# Altium footprint library MiscPower.PcbLib: 174 footprints (part 7 of 12)
Each footprint in its own frame and in the unit in brackets; x right, y up, seen from the top. Pads: shape width x height; smd on the part's side, far side on the other; paste and mask are expansions set on the pad; w line width, h text height; cw(c..) or ccw(c..) is an arc to the next point about the centre after c.
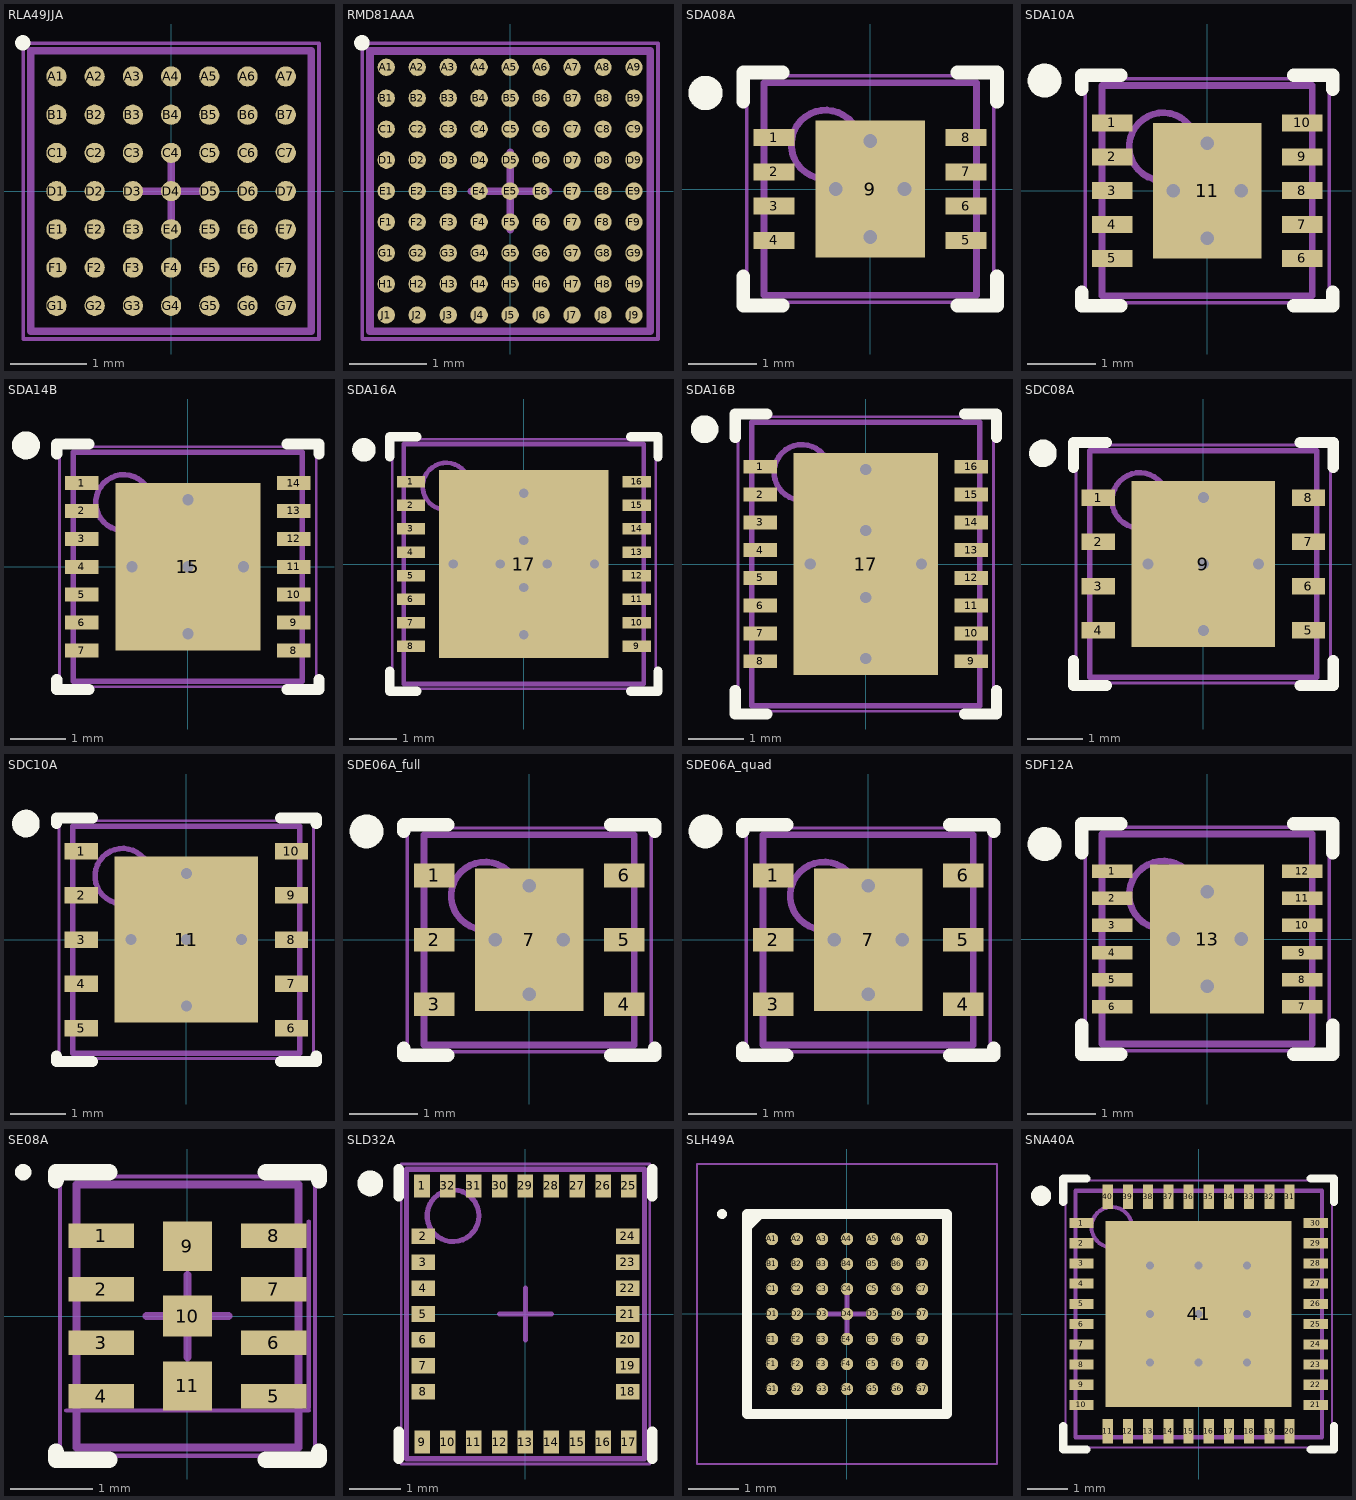
[diagram p6: the footprints below, top view; thin cyan lines are the x and y axes]

## RLA49JJA [mm] "Micro SMD, 49-Leads, Body 3.67x3.67mm, Pitch 0.5mm, NSC Recommended"
height 0.73
pads (49):
  round 0.265 smd paste-0.132 mask+0.05: A1(-1.5,1.5) A2(-1,1.5) A3(-0.5,1.5) A4(0,1.5) A5(0.5,1.5) A6(1,1.5) A7(1.5,1.5) B1(-1.5,1) B2(-1,1) B3(-0.5,1) B4(0,1) B5(0.5,1) B6(1,1) B7(1.5,1) C1(-1.5,0.5) C2(-1,0.5) C3(-0.5,0.5) C4(0,0.5) C5(0.5,0.5) C6(1,0.5) C7(1.5,0.5) D1(-1.5,0) D2(-1,0) D3(-0.5,0) D4(0,0) D5(0.5,0) D6(1,0) D7(1.5,0) E1(-1.5,-0.5) E2(-1,-0.5) E3(-0.5,-0.5) E4(0,-0.5) E5(0.5,-0.5) E6(1,-0.5) E7(1.5,-0.5) F1(-1.5,-1) F2(-1,-1) F3(-0.5,-1) F4(0,-1) F5(0.5,-1) F6(1,-1) F7(1.5,-1) G1(-1.5,-1.5) G2(-1,-1.5) G3(-0.5,-1.5) G4(0,-1.5) G5(0.5,-1.5) G6(1,-1.5) G7(1.5,-1.5)
Top Overlay:
  circle w0.1: c-1.94,1.94 r0.05
Top Paste:
  drawing of 441 lines, arcs and shapes, not listed
Mechanical 13:
  lines w0.1: -1.835,-1.835 -1.835,1.835 1.835,1.835 1.835,-1.835 -1.835,-1.835
Mechanical 15:
  lines w0.05: -1.935,-1.935 -1.935,1.935 1.935,1.935 1.935,-1.935 -1.935,-1.935
  lines w0.1: -0.5,0 0.5,0 ; 0,-0.5 0,0.5
3D body: height 0.73, standoff 0, extent -1.835,-1.835 1.835,1.835

## RMD81AAA [mm] "Micro SMD, 81-Leads, Body 3.62x3.62mm, Pitch 0.4mm, NSC Recommended"
height 0.73
pads (81):
  round 0.225 smd paste-0.112 mask+0.05: A1(-1.6,1.6) A2(-1.2,1.6) A3(-0.8,1.6) A4(-0.4,1.6) A5(0,1.6) A6(0.4,1.6) A7(0.8,1.6) A8(1.2,1.6) A9(1.6,1.6) B1(-1.6,1.2) B2(-1.2,1.2) B3(-0.8,1.2) B4(-0.4,1.2) B5(0,1.2) B6(0.4,1.2) B7(0.8,1.2) B8(1.2,1.2) B9(1.6,1.2) C1(-1.6,0.8) C2(-1.2,0.8) C3(-0.8,0.8) C4(-0.4,0.8) C5(0,0.8) C6(0.4,0.8) C7(0.8,0.8) C8(1.2,0.8) C9(1.6,0.8) D1(-1.6,0.4) D2(-1.2,0.4) D3(-0.8,0.4) D4(-0.4,0.4) D5(0,0.4) D6(0.4,0.4) D7(0.8,0.4) D8(1.2,0.4) D9(1.6,0.4) E1(-1.6,0) E2(-1.2,0) E3(-0.8,0) E4(-0.4,0) E5(0,0) E6(0.4,0) E7(0.8,0) E8(1.2,0) E9(1.6,0) F1(-1.6,-0.4) F2(-1.2,-0.4) F3(-0.8,-0.4) F4(-0.4,-0.4) F5(0,-0.4) F6(0.4,-0.4) F7(0.8,-0.4) F8(1.2,-0.4) F9(1.6,-0.4) G1(-1.6,-0.8) G2(-1.2,-0.8) G3(-0.8,-0.8) G4(-0.4,-0.8) G5(0,-0.8) G6(0.4,-0.8) G7(0.8,-0.8) G8(1.2,-0.8) G9(1.6,-0.8) H1(-1.6,-1.2) H2(-1.2,-1.2) H3(-0.8,-1.2) H4(-0.4,-1.2) H5(0,-1.2) H6(0.4,-1.2) H7(0.8,-1.2) H8(1.2,-1.2) H9(1.6,-1.2) J1(-1.6,-1.6) J2(-1.2,-1.6) J3(-0.8,-1.6) J4(-0.4,-1.6) J5(0,-1.6) J6(0.4,-1.6) J7(0.8,-1.6) J8(1.2,-1.6) J9(1.6,-1.6)
Top Overlay:
  circle w0.1: c-1.915,1.915 r0.05
Top Paste:
  drawing of 729 lines, arcs and shapes, not listed
Mechanical 13:
  lines w0.1: -1.81,-1.81 -1.81,1.81 1.81,1.81 1.81,-1.81 -1.81,-1.81
Mechanical 15:
  lines w0.05: -1.91,-1.91 -1.91,1.91 1.91,1.91 1.91,-1.91 -1.91,-1.91
  lines w0.1: -0.5,0 0.5,0 ; 0,-0.5 0,0.5
3D body: height 0.73, standoff 0, extent -1.81,-1.81 1.81,1.81

## SDA08A [mm] "SON, 8-Leads, Body 3x3mm, Pitch 0.5mm, NSC Recommended"
height 0.8
pads (9):
  rect 0.6x0.25 smd paste-0.125 mask+0.051: 1(-1.4,0.75) 2(-1.4,0.25) 3(-1.4,-0.25) 4(-1.4,-0.75) 5(1.4,-0.75) 6(1.4,-0.25) 7(1.4,0.25) 8(1.4,0.75)
  rect 1.6x2 smd paste-0.05 mask+0.051: 9(0,0)
via -0.5,0 diameter 0.5 hole 0.2
via 0.5,0 diameter 0.5 hole 0.2
via 0,0.7 diameter 0.5 hole 0.2
via 0,-0.7 diameter 0.5 hole 0.2
Top Overlay:
  circle w0.25: c-2.4,1.4 r0.125
  lines w0.2: -1.85,-1.275 -1.85,-1.7 -1.275,-1.7 ; -1.85,1.275 -1.85,1.7 -1.275,1.7 ; 1.275,-1.7 1.85,-1.7 1.85,-1.275 ; 1.275,1.7 1.85,1.7 1.85,1.275
Top Paste:
  region: 1.2,0.875 1.2,0.625 1.9,0.625 1.9,0.875
  region: 1.2,0.375 1.2,0.125 1.9,0.125 1.9,0.375
  region: 1.2,-0.125 1.2,-0.375 1.9,-0.375 1.9,-0.125
  region: 1.2,-0.625 1.2,-0.875 1.9,-0.875 1.9,-0.625
  region: -1.9,-0.625 -1.9,-0.875 -1.2,-0.875 -1.2,-0.625
  region: -1.9,-0.125 -1.9,-0.375 -1.2,-0.375 -1.2,-0.125
  region: -1.9,0.375 -1.9,0.125 -1.2,0.125 -1.2,0.375
  region: -1.9,0.875 -1.9,0.625 -1.2,0.625 -1.2,0.875
Mechanical 13:
  circle w0.1: c-0.65,0.65 r0.5
  lines w0.1: -1.55,-1.55 1.55,-1.55 1.55,1.55 -1.55,1.55 -1.55,-1.55
Mechanical 15:
  lines w0.05: -1.8,-1.65 1.8,-1.65 1.8,1.65 -1.8,1.65 -1.8,-1.65
  lines w0.1: -0.5,0 0.5,0 ; 0,-0.5 0,0.5
3D body: height 0.8, standoff 0, extent -1.55,-1.55 1.55,1.55

## SDA10A [mm] "SON, 10-Leads, Body 3x3 mm, Pitch 0.5mm, NSC Recommended"
height 0.8
pads (11):
  rect 0.6x0.25 smd paste-0.125 mask+0.051: 1(-1.4,1) 2(-1.4,0.5) 3(-1.4,0) 4(-1.4,-0.5) 5(-1.4,-1) 6(1.4,-1) 7(1.4,-0.5) 8(1.4,0) 9(1.4,0.5) 10(1.4,1)
  rect 1.6x2 smd paste-0.05 mask+0.051: 11(0,0)
via -0.5,0 diameter 0.5 hole 0.2
via 0.5,0 diameter 0.5 hole 0.2
via 0,0.7 diameter 0.5 hole 0.2
via 0,-0.7 diameter 0.5 hole 0.2
Top Overlay:
  circle w0.25: c-2.4,1.625 r0.125
  lines w0.2: -1.85,-1.5 -1.85,-1.7 -1.275,-1.7 ; -1.85,1.5 -1.85,1.7 -1.275,1.7 ; 1.275,-1.7 1.85,-1.7 1.85,-1.5 ; 1.275,1.7 1.85,1.7 1.85,1.5
Top Paste:
  rectangle: -1.9,0.875 -1.2,1.125
  rectangle: -1.9,0.375 -1.2,0.625
  rectangle: -1.9,-0.125 -1.2,0.125
  rectangle: -1.9,-0.625 -1.2,-0.375
  rectangle: -1.9,-1.125 -1.2,-0.875
  region: 1.9,1.125 1.2,1.125 1.2,0.875 1.9,0.875
  region: 1.9,0.625 1.2,0.625 1.2,0.375 1.9,0.375
  region: 1.9,0.125 1.2,0.125 1.2,-0.125 1.9,-0.125
  region: 1.9,-0.375 1.2,-0.375 1.2,-0.625 1.9,-0.625
  region: 1.9,-0.875 1.2,-0.875 1.2,-1.125 1.9,-1.125
Mechanical 13:
  circle w0.1: c-0.65,0.65 r0.5
  lines w0.1: -1.55,-1.55 -1.55,1.55 1.55,1.55 1.55,-1.55 -1.55,-1.55
Mechanical 15:
  lines w0.05: -1.8,-1.65 -1.8,1.65 1.8,1.65 1.8,-1.65 -1.8,-1.65
  lines w0.1: -0.5,0 0.5,0 ; 0,-0.5 0,0.5
3D body: height 0.8, standoff 0, extent -1.55,-1.55 1.55,1.55

## SDA14B [mm] "SON, 14-Leads, Body 4x4mm, Pitch 0.5mm, NSC Recommended"
height 0.8
pads (15):
  rect 0.6x0.25 smd paste-0.125 mask+0.051: 1(-1.9,1.5) 2(-1.9,1) 3(-1.9,0.5) 4(-1.9,0) 5(-1.9,-0.5) 6(-1.9,-1) 7(-1.9,-1.5) 8(1.9,-1.5) 9(1.9,-1) 10(1.9,-0.5) 11(1.9,0) 12(1.9,0.5) 13(1.9,1) 14(1.9,1.5)
  rect 2.6x3 smd paste-1.3 mask+0.051: 15(0,0)
via 0,0 diameter 0.5 hole 0.2
via 1,0 diameter 0.5 hole 0.2
via -1,0 diameter 0.5 hole 0.2
via 0,-1.2 diameter 0.5 hole 0.2
via 0,1.2 diameter 0.5 hole 0.2
Top Overlay:
  circle w0.25: c-2.9,2.175 r0.125
  lines w0.2: -2.35,-2.025 -2.35,-2.2 -1.775,-2.2 ; -2.35,2.025 -2.35,2.2 -1.775,2.2 ; 1.775,-2.2 2.35,-2.2 2.35,-2.025 ; 1.775,2.2 2.35,2.2 2.35,2.025
Top Paste:
  region: 1.2,1.4 0.1,1.4 0.1,0.1 1.2,0.1
  region: 1.2,-0.1 0.1,-0.1 0.1,-1.4 1.2,-1.4
  rectangle: -1.2,-1.4 -0.1,-0.1
  rectangle: -1.2,0.1 -0.1,1.4
  region: -2.4,-1.375 -2.4,-1.625 -1.7,-1.625 -1.7,-1.375
  region: -2.4,-0.875 -2.4,-1.125 -1.7,-1.125 -1.7,-0.875
  region: -2.4,-0.375 -2.4,-0.625 -1.7,-0.625 -1.7,-0.375
  region: -2.4,0.125 -2.4,-0.125 -1.7,-0.125 -1.7,0.125
  region: -2.4,1.125 -2.4,0.875 -1.7,0.875 -1.7,1.125
  region: -2.4,1.625 -2.4,1.375 -1.7,1.375 -1.7,1.625
  region: 1.7,1.625 1.7,1.375 2.4,1.375 2.4,1.625
  region: 1.7,1.125 1.7,0.875 2.4,0.875 2.4,1.125
  region: 1.7,0.625 1.7,0.375 2.4,0.375 2.4,0.625
  region: 1.7,0.125 1.7,-0.125 2.4,-0.125 2.4,0.125
  region: 1.7,-0.375 1.7,-0.625 2.4,-0.625 2.4,-0.375
  region: 1.7,-0.875 1.7,-1.125 2.4,-1.125 2.4,-0.875
  region: 1.7,-1.375 1.7,-1.625 2.4,-1.625 2.4,-1.375
  region: -2.4,0.625 -2.4,0.375 -1.7,0.375 -1.7,0.625
Mechanical 13:
  circle w0.1: c-1.15,1.15 r0.5
  lines w0.1: -2.05,-2.05 -2.05,2.05 2.05,2.05 2.05,-2.05 -2.05,-2.05
Mechanical 15:
  lines w0.05: -2.3,-2.15 -2.3,2.15 2.3,2.15 2.3,-2.15 -2.3,-2.15
  lines w0.1: -0.5,0 0.5,0 ; 0,-0.5 0,0.5
3D body: height 0.8, standoff 0, extent -2.049,-2.049 2.049,2.049

## SDA16A [mm] "SON, 16-Leads, Body 5x5mm, Pitch 0.5mm, NSC Recommended"
height 0.8
pads (17):
  rect 0.6x0.25 smd paste-0.125 mask+0.051: 1(-2.4,1.75) 2(-2.4,1.25) 3(-2.4,0.75) 4(-2.4,0.25) 5(-2.4,-0.25) 6(-2.4,-0.75) 7(-2.4,-1.25) 8(-2.4,-1.75) 9(2.4,-1.75) 10(2.4,-1.25) 11(2.4,-0.75) 12(2.4,-0.25) 13(2.4,0.25) 14(2.4,0.75) 15(2.4,1.25) 16(2.4,1.75)
  rect 3.6x4 smd paste-1.8 mask+0.051: 17(0,0)
via -1.5,0 diameter 0.5 hole 0.2
via 0,-1.5 diameter 0.5 hole 0.2
via 0,1.5 diameter 0.5 hole 0.2
via 1.5,0 diameter 0.5 hole 0.2
via -0.5,0 diameter 0.5 hole 0.2
via 0.5,0 diameter 0.5 hole 0.2
via 0,-0.5 diameter 0.5 hole 0.2
via 0,0.5 diameter 0.5 hole 0.2
Top Overlay:
  circle w0.25: c-3.4,2.425 r0.125
  lines w0.2: -2.85,-2.275 -2.85,-2.7 -2.275,-2.7 ; -2.85,2.275 -2.85,2.7 -2.275,2.7 ; 2.275,-2.7 2.85,-2.7 2.85,-2.275 ; 2.275,2.7 2.85,2.7 2.85,2.275
Top Paste:
  region: -1.7,-0.1 -1.7,-1.9 -0.1,-1.9 -0.1,-0.1
  region: -0.1,0.1 -0.1,1.9 -1.7,1.9 -1.7,0.1
  region: 1.7,0.1 1.7,1.9 0.1,1.9 0.1,0.1
  region: 2.2,1.875 2.2,1.625 2.9,1.625 2.9,1.875
  region: 2.2,1.375 2.2,1.125 2.9,1.125 2.9,1.375
  region: 2.2,0.875 2.2,0.625 2.9,0.625 2.9,0.875
  region: 2.2,0.375 2.2,0.125 2.9,0.125 2.9,0.375
  region: 2.2,-0.125 2.2,-0.375 2.9,-0.375 2.9,-0.125
  region: 2.2,-0.625 2.2,-0.875 2.9,-0.875 2.9,-0.625
  region: 2.2,-1.125 2.2,-1.375 2.9,-1.375 2.9,-1.125
  region: 2.2,-1.625 2.2,-1.875 2.9,-1.875 2.9,-1.625
  region: -2.9,-1.625 -2.9,-1.875 -2.2,-1.875 -2.2,-1.625
  region: -2.9,-1.125 -2.9,-1.375 -2.2,-1.375 -2.2,-1.125
  region: -2.9,-0.625 -2.9,-0.875 -2.2,-0.875 -2.2,-0.625
  region: -2.9,-0.125 -2.9,-0.375 -2.2,-0.375 -2.2,-0.125
  region: -2.9,0.375 -2.9,0.125 -2.2,0.125 -2.2,0.375
  region: -2.9,0.875 -2.9,0.625 -2.2,0.625 -2.2,0.875
  region: -2.9,1.375 -2.9,1.125 -2.2,1.125 -2.2,1.375
  region: -2.9,1.875 -2.9,1.625 -2.2,1.625 -2.2,1.875
  region: 0.1,-0.1 0.1,-1.9 1.7,-1.9 1.7,-0.1
Mechanical 13:
  circle w0.1: c-1.65,1.65 r0.5
  lines w0.1: -2.55,-2.55 -2.55,2.55 2.55,2.55 2.55,-2.55 -2.55,-2.55
Mechanical 15:
  lines w0.05: -2.8,-2.65 -2.8,2.65 2.8,2.65 2.8,-2.65 -2.8,-2.65
  lines w0.1: -0.5,0 0.5,0 ; 0,-0.5 0,0.5
3D body: height 0.8, standoff 0, extent -2.55,-2.55 2.55,2.55

## SDA16B [mm] "SON, 16-Leads, Body 5x4mm, Pitch 0.5mm, NSC Recommended"
height 0.8
pads (17):
  rect 0.6x0.25 smd paste-0.125 mask+0.051: 1(-1.9,1.75) 2(-1.9,1.25) 3(-1.9,0.75) 4(-1.9,0.25) 5(-1.9,-0.25) 6(-1.9,-0.75) 7(-1.9,-1.25) 8(-1.9,-1.75) 9(1.9,-1.75) 10(1.9,-1.25) 11(1.9,-0.75) 12(1.9,-0.25) 13(1.9,0.25) 14(1.9,0.75) 15(1.9,1.25) 16(1.9,1.75)
  rect 2.6x4 smd paste-1.3 mask+0.051: 17(0,0)
via 0,0.6 diameter 0.5 hole 0.2
via 0,-0.6 diameter 0.5 hole 0.2
via 1,0 diameter 0.5 hole 0.2
via -1,0 diameter 0.5 hole 0.2
via 0,1.7 diameter 0.5 hole 0.2
via 0,-1.7 diameter 0.5 hole 0.2
Top Overlay:
  circle w0.25: c-2.9,2.425 r0.125
  lines w0.2: -2.35,-2.275 -2.35,-2.7 -1.775,-2.7 ; -2.35,2.275 -2.35,2.7 -1.775,2.7 ; 1.775,-2.7 2.35,-2.7 2.35,-2.275 ; 1.775,2.7 2.35,2.7 2.35,2.275
Top Paste:
  rectangle: 0.1,-1.9 1.2,-0.1
  region: -0.1,-0.1 -1.2,-0.1 -1.2,-1.9 -0.1,-1.9
  region: -0.1,1.9 -1.2,1.9 -1.2,0.1 -0.1,0.1
  rectangle: 0.1,0.1 1.2,1.9
  region: 1.7,-1.625 1.7,-1.875 2.4,-1.875 2.4,-1.625
  region: 1.7,-1.125 1.7,-1.375 2.4,-1.375 2.4,-1.125
  region: 1.7,-0.625 1.7,-0.875 2.4,-0.875 2.4,-0.625
  region: 1.7,-0.125 1.7,-0.375 2.4,-0.375 2.4,-0.125
  region: 1.7,0.375 1.7,0.125 2.4,0.125 2.4,0.375
  region: 1.7,0.875 1.7,0.625 2.4,0.625 2.4,0.875
  region: 1.7,1.375 1.7,1.125 2.4,1.125 2.4,1.375
  region: 1.7,1.875 1.7,1.625 2.4,1.625 2.4,1.875
  region: -2.4,1.875 -2.4,1.625 -1.7,1.625 -1.7,1.875
  region: -2.4,1.375 -2.4,1.125 -1.7,1.125 -1.7,1.375
  region: -2.4,0.875 -2.4,0.625 -1.7,0.625 -1.7,0.875
  region: -2.4,0.375 -2.4,0.125 -1.7,0.125 -1.7,0.375
  region: -2.4,-0.125 -2.4,-0.375 -1.7,-0.375 -1.7,-0.125
  region: -2.4,-0.625 -2.4,-0.875 -1.7,-0.875 -1.7,-0.625
  region: -2.4,-1.125 -2.4,-1.375 -1.7,-1.375 -1.7,-1.125
  region: -2.4,-1.625 -2.4,-1.875 -1.7,-1.875 -1.7,-1.625
Mechanical 13:
  circle w0.1: c-1.15,1.65 r0.5
  lines w0.1: -2.05,-2.55 -2.05,2.55 2.05,2.55 2.05,-2.55 -2.05,-2.55
Mechanical 15:
  lines w0.05: -2.3,-2.65 -2.3,2.65 2.3,2.65 2.3,-2.65 -2.3,-2.65
  lines w0.1: -0.5,0 0.5,0 ; 0,-0.5 0,0.5
3D body: height 0.8, standoff 0, extent -2.049,-2.549 2.049,2.549

## SDC08A [mm] "SON, 8-Leads, Body 4x4mm, Pitch 0.8mm, NSC Recommended"
height 0.8
pads (9):
  rect 0.6x0.3 smd paste-0.15 mask+0.051: 1(-1.9,1.2) 2(-1.9,0.4) 3(-1.9,-0.4) 4(-1.9,-1.2) 5(1.9,-1.2) 6(1.9,-0.4) 7(1.9,0.4) 8(1.9,1.2)
  rect 2.6x3 smd paste-1.5 mask+0.051: 9(0,0)
via -1,0 diameter 0.5 hole 0.2
via 0,0 diameter 0.5 hole 0.2
via 1,0 diameter 0.5 hole 0.2
via 0,1.2 diameter 0.5 hole 0.2
via 0,-1.2 diameter 0.5 hole 0.2
Top Overlay:
  circle w0.25: c-2.9,2 r0.125
  lines w0.2: -2.35,-1.75 -2.35,-2.2 -1.75,-2.2 ; -2.35,1.75 -2.35,2.2 -1.75,2.2 ; 1.75,-2.2 2.35,-2.2 2.35,-1.75 ; 1.75,2.2 2.35,2.2 2.35,1.75
Top Paste:
  rectangle: -1.2,-1.4 -0.1,-0.1
  region: 1.2,-0.1 0.1,-0.1 0.1,-1.4 1.2,-1.4
  region: 1.2,1.4 0.1,1.4 0.1,0.1 1.2,0.1
  rectangle: -1.2,0.1 -0.1,1.4
  rectangle: 1.7,1.05 2.4,1.35
  rectangle: 1.7,0.25 2.4,0.55
  rectangle: 1.7,-0.55 2.4,-0.25
  rectangle: 1.7,-1.35 2.4,-1.05
  region: -1.7,-1.05 -2.4,-1.05 -2.4,-1.35 -1.7,-1.35
  region: -1.7,-0.25 -2.4,-0.25 -2.4,-0.55 -1.7,-0.55
  region: -1.7,0.55 -2.4,0.55 -2.4,0.25 -1.7,0.25
  region: -1.7,1.35 -2.4,1.35 -2.4,1.05 -1.7,1.05
Mechanical 13:
  circle w0.1: c-1.15,1.15 r0.5
  lines w0.1: -2.05,-2.05 2.05,-2.05 2.05,2.05 -2.05,2.05 -2.05,-2.05
Mechanical 15:
  lines w0.05: -2.3,-2.15 2.3,-2.15 2.3,2.15 -2.3,2.15 -2.3,-2.15
  lines w0.1: -0.5,0 0.5,0 ; 0,-0.5 0,0.5
3D body: height 0.8, standoff 0, extent -2.05,-2.05 2.05,2.05

## SDC10A [mm] "SON, 10-Leads, Body 4x4 mm, Pitch 0.8mm, NSC Recommended"
height 0.8
pads (11):
  rect 0.6x0.3 smd paste-0.15 mask+0.051: 1(-1.9,1.6) 2(-1.9,0.8) 3(-1.9,0) 4(-1.9,-0.8) 5(-1.9,-1.6) 6(1.9,-1.6) 7(1.9,-0.8) 8(1.9,0) 9(1.9,0.8) 10(1.9,1.6)
  rect 2.6x3 smd paste-1.3 mask+0.051: 11(0,0)
via -1,0 diameter 0.5 hole 0.2
via 0,-1.2 diameter 0.5 hole 0.2
via 0,0 diameter 0.5 hole 0.2
via 0,1.2 diameter 0.5 hole 0.2
via 1,0 diameter 0.5 hole 0.2
Top Overlay:
  circle w0.25: c-2.9,2.1 r0.125
  lines w0.2: -2.35,-2.2 -2.35,-2.1 ; -2.35,2.1 -2.35,2.2 ; -2.345,-2.2 -1.7,-2.2 ; -2.345,2.2 -1.7,2.2 ; 1.7,-2.2 2.345,-2.2 ; 1.7,2.2 2.345,2.2 ; 2.35,-2.2 2.35,-2.1 ; 2.35,2.1 2.35,2.2
Top Paste:
  rectangle: 0.1,-1.4 1.2,-0.1
  region: -0.1,-0.1 -1.2,-0.1 -1.2,-1.4 -0.1,-1.4
  region: -0.1,1.4 -1.2,1.4 -1.2,0.1 -0.1,0.1
  rectangle: 0.1,0.1 1.2,1.4
  rectangle: -2.4,1.45 -1.7,1.75
  rectangle: -2.4,0.65 -1.7,0.95
  rectangle: -2.4,-0.15 -1.7,0.15
  rectangle: -2.4,-0.95 -1.7,-0.65
  rectangle: -2.4,-1.75 -1.7,-1.45
  region: 2.4,-1.45 1.7,-1.45 1.7,-1.75 2.4,-1.75
  region: 2.4,-0.65 1.7,-0.65 1.7,-0.95 2.4,-0.95
  region: 2.4,0.15 1.7,0.15 1.7,-0.15 2.4,-0.15
  region: 2.4,0.95 1.7,0.95 1.7,0.65 2.4,0.65
  region: 2.4,1.75 1.7,1.75 1.7,1.45 2.4,1.45
Mechanical 13:
  circle w0.1: c-1.15,1.15 r0.5
  lines w0.1: -2.05,-2.05 2.05,-2.05 2.05,2.05 -2.05,2.05 -2.05,-2.05
Mechanical 15:
  lines w0.05: -2.3,-2.15 2.3,-2.15 2.3,2.15 -2.3,2.15 -2.3,-2.15
  lines w0.1: -0.5,0 0.5,0 ; 0,-0.5 0,0.5
3D body: height 0.8, standoff 0, extent -2.049,-2.049 2.049,2.049

## SDE06A_full [mm] "SON, 6-Leads, Body 3x3 mm, Pitch 0.95mm, NSC Recommended"
height 0.8
pads (7):
  rect 0.6x0.35 smd paste-0.175 mask+0.051: 1(-1.4,0.95) 2(-1.4,0) 3(-1.4,-0.95) 4(1.4,-0.95) 5(1.4,0) 6(1.4,0.95)
  rect 1.6x2.1 smd paste-0.8 mask+0.051: 7(0,0)
via 0,-0.8 diameter 0.5 hole 0.2
via 0.5,0 diameter 0.5 hole 0.2
via 0,0.8 diameter 0.5 hole 0.2
via -0.5,0 diameter 0.5 hole 0.2
Top Overlay:
  circle w0.25: c-2.4,1.6 r0.125
  lines w0.2: -1.85,-1.6 -1.85,-1.7 -1.2,-1.7 ; -1.85,1.6 -1.85,1.7 -1.2,1.7 ; 1.2,-1.7 1.85,-1.7 1.85,-1.6 ; 1.2,1.7 1.85,1.7 1.85,1.6
Top Paste:
  rectangle: -0.76,-1 0.76,1
  region: 1.9,1.125 1.2,1.125 1.2,0.775 1.9,0.775
  region: 1.9,0.175 1.2,0.175 1.2,-0.175 1.9,-0.175
  region: 1.9,-0.775 1.2,-0.775 1.2,-1.125 1.9,-1.125
  rectangle: -1.9,-1.125 -1.2,-0.775
  rectangle: -1.9,-0.175 -1.2,0.175
  rectangle: -1.9,0.775 -1.2,1.125
Mechanical 13:
  circle w0.1: c-0.65,0.65 r0.5
  lines w0.1: -1.55,-1.55 1.55,-1.55 1.55,1.55 -1.55,1.55 -1.55,-1.55
Mechanical 15:
  lines w0.05: -1.8,-1.65 -1.8,1.65 1.8,1.65 1.8,-1.65 -1.8,-1.65
  lines w0.1: -0.5,0 0.5,0 ; 0,-0.5 0,0.5
3D body: height 0.8, standoff 0, extent -1.55,-1.55 1.55,1.55

## SDE06A_quad [mm] "SON, 6-Leads, Body 3x3 mm, Pitch 0.95mm, NSC Recommended"
height 0.8
pads (7):
  rect 0.6x0.35 smd paste-0.175 mask+0.051: 1(-1.4,0.95) 2(-1.4,0) 3(-1.4,-0.95) 4(1.4,-0.95) 5(1.4,0) 6(1.4,0.95)
  rect 1.6x2.1 smd paste-0.8 mask+0.051: 7(0,0)
via -0.5,0 diameter 0.5 hole 0.2
via 0,0.8 diameter 0.5 hole 0.2
via 0.5,0 diameter 0.5 hole 0.2
via 0,-0.8 diameter 0.5 hole 0.2
Top Overlay:
  circle w0.25: c-2.4,1.6 r0.125
  lines w0.2: -1.85,-1.6 -1.85,-1.7 -1.2,-1.7 ; -1.85,1.6 -1.85,1.7 -1.2,1.7 ; 1.2,-1.7 1.85,-1.7 1.85,-1.6 ; 1.2,1.7 1.85,1.7 1.85,1.6
Top Paste:
  rectangle: -1.9,0.775 -1.2,1.125
  rectangle: -1.9,-0.175 -1.2,0.175
  rectangle: -1.9,-1.125 -1.2,-0.775
  region: 1.9,-0.775 1.2,-0.775 1.2,-1.125 1.9,-1.125
  region: 1.9,0.175 1.2,0.175 1.2,-0.175 1.9,-0.175
  region: 1.9,1.125 1.2,1.125 1.2,0.775 1.9,0.775
  region: -0.1,1.05 -0.8,1.05 -0.8,0.1 -0.1,0.1
  rectangle: 0.1,0.1 0.8,1.05
  rectangle: 0.1,-1.05 0.8,-0.1
  region: -0.1,-0.1 -0.8,-0.1 -0.8,-1.05 -0.1,-1.05
Mechanical 13:
  circle w0.1: c-0.65,0.65 r0.5
  lines w0.1: -1.55,-1.55 -1.55,1.55 1.55,1.55 1.55,-1.55 -1.55,-1.55
Mechanical 15:
  lines w0.05: -1.8,-1.65 1.8,-1.65 1.8,1.65 -1.8,1.65 -1.8,-1.65
  lines w0.1: -0.5,0 0.5,0 ; 0,-0.5 0,0.5
3D body: height 0.8, standoff 0, extent -1.55,-1.55 1.55,1.55

## SDF12A [mm] "SON, 12-Leads, Body 3x3mm, Pitch 0.4mm, NSC Recommended"
height 0.8
pads (13):
  rect 0.6x0.2 smd paste-0.125 mask+0.051: 1(-1.4,1) 2(-1.4,0.6) 3(-1.4,0.2) 4(-1.4,-0.2) 5(-1.4,-0.6) 6(-1.4,-1) 7(1.4,-1) 8(1.4,-0.6) 9(1.4,-0.2) 10(1.4,0.2) 11(1.4,0.6) 12(1.4,1)
  rect 1.68x2.2 smd paste-0.05 mask+0.051: 13(0,0)
via 0,-0.7 diameter 0.5 hole 0.2
via 0,0.7 diameter 0.5 hole 0.2
via 0.5,0 diameter 0.5 hole 0.2
via -0.5,0 diameter 0.5 hole 0.2
Top Overlay:
  circle w0.25: c-2.4,1.4 r0.125
  lines w0.2: -1.85,-1.275 -1.85,-1.7 -1.275,-1.7 ; -1.85,1.275 -1.85,1.7 -1.275,1.7 ; 1.275,-1.7 1.85,-1.7 1.85,-1.275 ; 1.275,1.7 1.85,1.7 1.85,1.275
Top Paste:
  rectangle: -1.9,0.9 -1.2,1.1
  rectangle: -1.9,0.5 -1.2,0.7
  rectangle: -1.9,0.1 -1.2,0.3
  rectangle: -1.9,-0.3 -1.2,-0.1
  rectangle: -1.9,-0.7 -1.2,-0.5
  rectangle: -1.9,-1.1 -1.2,-0.9
  region: 1.9,-0.9 1.2,-0.9 1.2,-1.1 1.9,-1.1
  region: 1.9,-0.5 1.2,-0.5 1.2,-0.7 1.9,-0.7
  region: 1.9,-0.1 1.2,-0.1 1.2,-0.3 1.9,-0.3
  region: 1.9,0.3 1.2,0.3 1.2,0.1 1.9,0.1
  region: 1.9,0.7 1.2,0.7 1.2,0.5 1.9,0.5
  region: 1.9,1.1 1.2,1.1 1.2,0.9 1.9,0.9
Mechanical 13:
  circle w0.1: c-0.65,0.65 r0.5
  lines w0.1: -1.55,-1.55 -1.55,1.55 1.55,1.55 1.55,-1.55 -1.55,-1.55
Mechanical 15:
  lines w0.05: -1.8,-1.65 -1.8,1.65 1.8,1.65 1.8,-1.65 -1.8,-1.65
  lines w0.1: -0.5,0 0.5,0 ; 0,-0.5 0,0.5
3D body: height 0.8, standoff 0, extent -1.55,-1.55 1.55,1.55

## SE08A [mm] "POS, 8-Leads, Body 2.5x3.0mm, Pitch 0.65mm, NSC Recommended"
height 0.65
pads (11):
  rect 0.8x0.3 smd: 1(-1.05,0.975) 2(-1.05,0.325) 3(-1.05,-0.325) 4(-1.05,-0.975) 5(1.05,-0.975) 6(1.05,-0.325) 7(1.05,0.325) 8(1.05,0.975)
  rect 0.6x0.6 smd: 9(0,0.85) 11(0,-0.85)
  rect 0.6x0.5 smd: 10(0,0)
Top Overlay:
  circle w0.1: c-2,1.75 r0.05
  lines w0.2: -1.6,-1.75 -1.6,-1.65 ; -1.6,1.65 -1.6,1.75 ; -1.595,-1.75 -0.95,-1.75 ; -1.595,1.75 -0.95,1.75 ; 0.95,-1.75 1.595,-1.75 ; 0.95,1.75 1.595,1.75 ; 1.6,-1.75 1.6,-1.65 ; 1.6,1.65 1.6,1.75
Mechanical 13:
  lines w0.1: -1.35,-1.6 1.35,-1.6 1.35,1.6 -1.35,1.6 -1.35,-1.6
Mechanical 15:
  lines w0.05: -1.475,-1.15 1.475,-1.15 ; 1.475,-1.115 1.475,1.15 ; -1.55,-1.7 1.55,-1.7 1.55,1.7 -1.55,1.7 -1.55,-1.7
  lines w0.1: -0.5,0 0.5,0 ; 0,-0.5 0,0.5
3D body: height 0.65, standoff 0, extent -1.349,-1.599 1.349,1.599

## SLD32A [mm] "PQFN, 32-Leads (9x7 pads), Body 4.5x5.5mm, Pitch 0.5mm, NSC Recommended"
height 0.8
pads (32):
  rect 0.3x0.45 smd paste-0.15 mask+0.051: 1(-2,2.475) 9(-2,-2.475) 10(-1.5,-2.475) 11(-1,-2.475) 12(-0.5,-2.475) 13(0,-2.475) 14(0.5,-2.475) 15(1,-2.475) 16(1.5,-2.475) 17(2,-2.475) 25(2,2.475) 26(1.5,2.475) 27(1,2.475) 28(0.5,2.475) 29(0,2.475) 30(-0.5,2.475) 31(-1,2.475) 32(-1.5,2.475)
  rect 0.45x0.3 smd paste-0.15 mask+0.051: 2(-1.975,1.5) 3(-1.975,1) 4(-1.975,0.5) 5(-1.975,0) 6(-1.975,-0.5) 7(-1.975,-1) 8(-1.975,-1.5) 18(1.975,-1.5) 19(1.975,-1) 20(1.975,-0.5) 21(1.975,0) 22(1.975,0.5) 23(1.975,1) 24(1.975,1.5)
Top Overlay:
  circle w0.25: c-3,2.525 r0.125
  lines w0.2: -2.45,-2.8 -2.45,-2.275 ; -2.45,2.275 -2.45,2.8 ; 2.45,-2.8 2.45,-2.275 ; 2.45,2.275 2.45,2.8
Top Paste:
  region: -2.15,2.8 -2.15,2.35 -1.85,2.35 -1.85,2.8
  region: -1.65,2.8 -1.65,2.35 -1.35,2.35 -1.35,2.8
  region: -1.15,2.8 -1.15,2.35 -0.85,2.35 -0.85,2.8
  region: -0.65,2.8 -0.65,2.35 -0.35,2.35 -0.35,2.8
  region: -0.15,2.8 -0.15,2.35 0.15,2.35 0.15,2.8
  region: 0.35,2.8 0.35,2.35 0.65,2.35 0.65,2.8
  region: 0.85,2.8 0.85,2.35 1.15,2.35 1.15,2.8
  region: 1.35,2.8 1.35,2.35 1.65,2.35 1.65,2.8
  region: 1.85,2.8 1.85,2.35 2.15,2.35 2.15,2.8
  region: 2.3,1.65 1.85,1.65 1.85,1.35 2.3,1.35
  region: 2.3,1.15 1.85,1.15 1.85,0.85 2.3,0.85
  region: 2.3,0.65 1.85,0.65 1.85,0.35 2.3,0.35
  region: 2.3,0.15 1.85,0.15 1.85,-0.15 2.3,-0.15
  region: 2.3,-0.35 1.85,-0.35 1.85,-0.65 2.3,-0.65
  region: 2.3,-0.85 1.85,-0.85 1.85,-1.15 2.3,-1.15
  region: 2.3,-1.35 1.85,-1.35 1.85,-1.65 2.3,-1.65
  region: 2.15,-2.8 2.15,-2.35 1.85,-2.35 1.85,-2.8
  region: 1.65,-2.8 1.65,-2.35 1.35,-2.35 1.35,-2.8
  region: 1.15,-2.8 1.15,-2.35 0.85,-2.35 0.85,-2.8
  region: 0.65,-2.8 0.65,-2.35 0.35,-2.35 0.35,-2.8
  region: 0.15,-2.8 0.15,-2.35 -0.15,-2.35 -0.15,-2.8
  region: -0.35,-2.8 -0.35,-2.35 -0.65,-2.35 -0.65,-2.8
  region: -0.85,-2.8 -0.85,-2.35 -1.15,-2.35 -1.15,-2.8
  region: -1.35,-2.8 -1.35,-2.35 -1.65,-2.35 -1.65,-2.8
  region: -1.85,-2.8 -1.85,-2.35 -2.15,-2.35 -2.15,-2.8
  rectangle: -2.3,-1.65 -1.85,-1.35
  rectangle: -2.3,-1.15 -1.85,-0.85
  rectangle: -2.3,-0.65 -1.85,-0.35
  rectangle: -2.3,-0.15 -1.85,0.15
  rectangle: -2.3,0.35 -1.85,0.65
  rectangle: -2.3,0.85 -1.85,1.15
  rectangle: -2.3,1.35 -1.85,1.65
Mechanical 13:
  circle w0.1: c-1.4,1.9 r0.5
  lines w0.1: -2.3,-2.8 2.3,-2.8 2.3,2.8 -2.3,2.8 -2.3,-2.8
Mechanical 15:
  lines w0.05: 2.38,-2.9 -2.4,-2.9 -2.4,2.9 2.38,2.9 ; 2.4,-2.9 2.4,2.9
  lines w0.1: -0.5,0 0.5,0 ; 0,-0.5 0,0.5
3D body: height 0.8, standoff 0, extent -2.299,-2.799 2.299,2.799

## SLH49A [mm] "BGA, 49-Leads, Body 4x4mm, Pitch 0.5mm"
height 1.1
pads (49):
  round 0.25 smd: A1(-1.5,1.5) A2(-1,1.5) A3(-0.5,1.5) A4(0,1.5) A5(0.5,1.5) A6(1,1.5) A7(1.5,1.5) B1(-1.5,1) B2(-1,1) B3(-0.5,1) B4(0,1) B5(0.5,1) B6(1,1) B7(1.5,1) C1(-1.5,0.5) C2(-1,0.5) C3(-0.5,0.5) C4(0,0.5) C5(0.5,0.5) C6(1,0.5) C7(1.5,0.5) D1(-1.5,0) D2(-1,0) D3(-0.5,0) D4(0,0) D5(0.5,0) D6(1,0) D7(1.5,0) E1(-1.5,-0.5) E2(-1,-0.5) E3(-0.5,-0.5) E4(0,-0.5) E5(0.5,-0.5) E6(1,-0.5) E7(1.5,-0.5) F1(-1.5,-1) F2(-1,-1) F3(-0.5,-1) F4(0,-1) F5(0.5,-1) F6(1,-1) F7(1.5,-1) G1(-1.5,-1.5) G2(-1,-1.5) G3(-0.5,-1.5) G4(0,-1.5) G5(0.5,-1.5) G6(1,-1.5) G7(1.5,-1.5)
Top Overlay:
  circle w0.1: c-2.5,2 r0.05
  region: -1.742,2 -2,1.742 -2,2
  lines w0.2: -2,1.742 -1.742,2 ; -2,-2 -2,2 2,2 2,-2 -2,-2
Mechanical 13:
  lines w0.1: -2,-2 -2,2 2,2 2,-2 -2,-2
Mechanical 15:
  lines w0.05: -3,-3 -3,3 3,3 3,-3 -3,-3
  lines w0.1: -0.5,0 0.5,0 ; 0,-0.5 0,0.5
3D body: height 1.1, standoff 0.18, extent -1.999,-1.999 1.999,1.999

## SNA40A [mm] "QFN, 40-Leads, Body 6x6 mm, Pitch 0.5mm, NSC Recommended"
height 0.4
pads (41):
  rect 0.6x0.25 smd paste-0.125 mask+0.051: 1(-2.9,2.25) 2(-2.9,1.75) 3(-2.9,1.25) 4(-2.9,0.75) 5(-2.9,0.25) 6(-2.9,-0.25) 7(-2.9,-0.75) 8(-2.9,-1.25) 9(-2.9,-1.75) 10(-2.9,-2.25) 21(2.9,-2.25) 22(2.9,-1.75) 23(2.9,-1.25) 24(2.9,-0.75) 25(2.9,-0.25) 26(2.9,0.25) 27(2.9,0.75) 28(2.9,1.25) 29(2.9,1.75) 30(2.9,2.25)
  rect 0.25x0.6 smd paste-0.125 mask+0.051: 11(-2.25,-2.9) 12(-1.75,-2.9) 13(-1.25,-2.9) 14(-0.75,-2.9) 15(-0.25,-2.9) 16(0.25,-2.9) 17(0.75,-2.9) 18(1.25,-2.9) 19(1.75,-2.9) 20(2.25,-2.9) 31(2.25,2.9) 32(1.75,2.9) 33(1.25,2.9) 34(0.75,2.9) 35(0.25,2.9) 36(-0.25,2.9) 37(-0.75,2.9) 38(-1.25,2.9) 39(-1.75,2.9) 40(-2.25,2.9)
  rect 4.6x4.6 smd paste-2.3 mask+0.051: 41(0,0)
via 1.2,1.2 diameter 0.5 hole 0.2
via -1.2,1.2 diameter 0.5 hole 0.2
via 0,1.2 diameter 0.5 hole 0.2
via 1.2,-1.2 diameter 0.5 hole 0.2
via -1.2,-1.2 diameter 0.5 hole 0.2
via 0,-1.2 diameter 0.5 hole 0.2
via 0,0 diameter 0.5 hole 0.2
via -1.2,0 diameter 0.5 hole 0.2
via 1.2,0 diameter 0.5 hole 0.2
Top Overlay:
  circle w0.25: c-3.9,2.925 r0.125
  lines w0.2: -3.35,-2.775 -3.35,-3.35 -2.775,-3.35 ; -3.35,2.775 -3.35,3.35 -2.775,3.35 ; 2.775,-3.35 3.35,-3.35 3.35,-2.775 ; 2.775,3.35 3.35,3.35 3.35,2.775
Top Paste:
  region: 2.125,3.4 2.125,2.7 2.375,2.7 2.375,3.4
  region: 1.625,3.4 1.625,2.7 1.875,2.7 1.875,3.4
  region: 1.125,3.4 1.125,2.7 1.375,2.7 1.375,3.4
  region: 0.625,3.4 0.625,2.7 0.875,2.7 0.875,3.4
  region: 0.125,3.4 0.125,2.7 0.375,2.7 0.375,3.4
  region: -0.375,3.4 -0.375,2.7 -0.125,2.7 -0.125,3.4
  region: -0.875,3.4 -0.875,2.7 -0.625,2.7 -0.625,3.4
  region: -1.375,3.4 -1.375,2.7 -1.125,2.7 -1.125,3.4
  region: -1.875,3.4 -1.875,2.7 -1.625,2.7 -1.625,3.4
  region: -2.375,3.4 -2.375,2.7 -2.125,2.7 -2.125,3.4
  region: 3.4,-2.125 2.7,-2.125 2.7,-2.375 3.4,-2.375
  region: 3.4,-1.625 2.7,-1.625 2.7,-1.875 3.4,-1.875
  region: 3.4,-1.125 2.7,-1.125 2.7,-1.375 3.4,-1.375
  region: 3.4,-0.625 2.7,-0.625 2.7,-0.875 3.4,-0.875
  region: 3.4,-0.125 2.7,-0.125 2.7,-0.375 3.4,-0.375
  region: 3.4,0.375 2.7,0.375 2.7,0.125 3.4,0.125
  region: 3.4,0.875 2.7,0.875 2.7,0.625 3.4,0.625
  region: 3.4,1.375 2.7,1.375 2.7,1.125 3.4,1.125
  region: 3.4,1.875 2.7,1.875 2.7,1.625 3.4,1.625
  region: 3.4,2.375 2.7,2.375 2.7,2.125 3.4,2.125
  region: -2.125,-3.4 -2.125,-2.7 -2.375,-2.7 -2.375,-3.4
  region: -1.625,-3.4 -1.625,-2.7 -1.875,-2.7 -1.875,-3.4
  region: -1.125,-3.4 -1.125,-2.7 -1.375,-2.7 -1.375,-3.4
  region: -0.625,-3.4 -0.625,-2.7 -0.875,-2.7 -0.875,-3.4
  region: -0.125,-3.4 -0.125,-2.7 -0.375,-2.7 -0.375,-3.4
  region: 0.375,-3.4 0.375,-2.7 0.125,-2.7 0.125,-3.4
  region: 0.875,-3.4 0.875,-2.7 0.625,-2.7 0.625,-3.4
  region: 1.375,-3.4 1.375,-2.7 1.125,-2.7 1.125,-3.4
  region: 1.875,-3.4 1.875,-2.7 1.625,-2.7 1.625,-3.4
  region: 2.375,-3.4 2.375,-2.7 2.125,-2.7 2.125,-3.4
  rectangle: -3.4,-2.375 -2.7,-2.125
  rectangle: -3.4,-1.875 -2.7,-1.625
  rectangle: -3.4,-1.375 -2.7,-1.125
  rectangle: -3.4,-0.875 -2.7,-0.625
  rectangle: -3.4,-0.375 -2.7,-0.125
  rectangle: -3.4,0.125 -2.7,0.375
  rectangle: -3.4,0.625 -2.7,0.875
  rectangle: -3.4,1.125 -2.7,1.375
  rectangle: -3.4,1.625 -2.7,1.875
  rectangle: -3.4,2.125 -2.7,2.375
  rectangle: 0.1,-1.1 1.1,-0.1
  rectangle: 1.3,-2.3 2.3,-1.3
  rectangle: 1.3,-1.1 2.3,-0.1
  rectangle: 0.1,-2.3 1.1,-1.3
  region: -0.1,-0.1 -1.1,-0.1 -1.1,-1.1 -0.1,-1.1
  region: -1.3,-1.3 -2.3,-1.3 -2.3,-2.3 -1.3,-2.3
  region: -1.3,-0.1 -2.3,-0.1 -2.3,-1.1 -1.3,-1.1
  region: -0.1,-1.3 -1.1,-1.3 -1.1,-2.3 -0.1,-2.3
  region: -0.1,1.1 -1.1,1.1 -1.1,0.1 -0.1,0.1
  region: -1.3,2.3 -2.3,2.3 -2.3,1.3 -1.3,1.3
  region: -1.3,1.1 -2.3,1.1 -2.3,0.1 -1.3,0.1
  region: -0.1,2.3 -1.1,2.3 -1.1,1.3 -0.1,1.3
  rectangle: 0.1,1.3 1.1,2.3
  rectangle: 1.3,0.1 2.3,1.1
  rectangle: 1.3,1.3 2.3,2.3
  rectangle: 0.1,0.1 1.1,1.1
Mechanical 13:
  circle w0.1: c-2.15,2.15 r0.5
  lines w0.1: -3.05,-3.05 -3.05,3.05 3.05,3.05 3.05,-3.05 -3.05,-3.05
Mechanical 15:
  lines w0.05: -3.3,-3.3 -3.3,3.3 3.3,3.3 3.3,-3.3 -3.3,-3.3
  lines w0.1: -0.5,0 0.5,0 ; 0,-0.5 0,0.5
3D body: height 0.4, standoff 0, extent -3.05,-3.05 3.05,3.05